# Altium footprint library con-bh.PcbLib: 3 footprints
Each footprint in its own frame and in the unit in brackets; x right, y up, seen from the top. Pads: shape width x height; smd on the part's side, far side on the other; paste and mask are expansions set on the pad; w line width, h text height; cw(c..) or ccw(c..) is an arc to the next point about the centre after c.
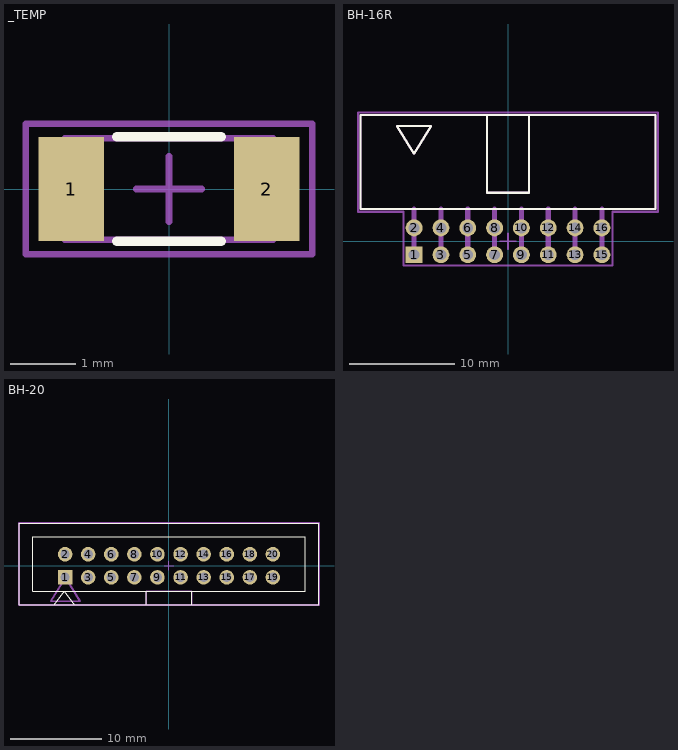
[diagram p0: the footprints below, top view; thin cyan lines are the x and y axes]

## _TEMP [mm]
height 0.6
pads (2):
  rect 1x1.6 smd: 1(-1.5,0) 2(1.5,0)
Top Overlay:
  lines w0.15: -0.8,-0.8 0.8,-0.8 ; -0.8,0.8 0.8,0.8
Top Assembly (Mech3):
  lines w0.1: -1.6,-0.775 1.6,-0.775 1.6,0.775 -1.6,0.775 -1.6,-0.775
Top Courtyard:
  lines w0.1: -0.5,0 0.5,0 ; 0,-0.5 0,0.5 ; -2.2,-1 -2.2,1 2.2,1 2.2,-1 -2.2,-1
3D body "chip_1206_r.STEP": height 0.47, standoff -0.03, extent -1.65,-0.8 1.55,0.8

## BH-16R [mm]
height 8.5
pads (16):
  rect 1.6x1.6 hole 1.02: 1(-8.89,-1.27)
  round 1.6 hole 1.02: 2(-8.89,1.27) 3(-6.35,-1.27) 4(-6.35,1.27) 5(-3.81,-1.27) 6(-3.81,1.27) 7(-1.27,-1.27) 8(-1.27,1.27) 9(1.27,-1.27) 10(1.27,1.27) 11(3.81,-1.27) 12(3.81,1.27) 13(6.35,-1.27) 14(6.35,1.27) 15(8.89,-1.27) 16(8.89,1.27)
Top Overlay:
  lines w0.2: -2,11.96 -2,4.6 2,4.6 2,11.96 ; -13.95,3.06 13.95,3.06 13.95,11.96 -13.95,11.96 -13.95,3.06 ; -10.5,10.9 -8.9,8.3 -7.28,10.9 -8.89,10.9 -10.5,10.9
Top Assembly (Mech3):
  lines w0.2: -2,11.96 -2,4.6 2,4.6 2,11.96 ; -13.95,3.06 -13.95,11.96 13.95,11.96 13.95,3.06 -13.95,3.06 ; -10.5,10.9 -8.89,10.9 -7.28,10.9 -8.9,8.3 -10.5,10.9
  lines w0.5: -8.9,3.06 -8.89,-1.27 ; -6.35,-1.27 -6.35,3.06 ; -3.81,-1.27 -3.81,3.06 ; -1.27,-1.27 -1.27,3.06 ; 1.27,-1.27 1.27,3.06 ; 3.81,-1.27 3.81,3.06 ; 6.35,-1.27 6.35,3.06 ; 8.89,-1.27 8.89,3.06
Top Courtyard:
  lines w0.15: -0.762,0 0.762,0 ; 0,-0.762 0,0.762
  lines w0.2: -14.2,2.8 -9.9,2.8 -9.9,-2.3 9.9,-2.3 9.9,2.8 14.2,2.8 14.2,12.2 -14.2,12.2 -14.2,2.8
3D body "BH-16R.STEP": height 9.1, standoff -2.8, extent -13.95,-1.6 13.95,11.96

## BH-20 [mm]
pads (20):
  rect 1.6x1.6 hole 1.02: 1(-11.43,-1.27)
  round 1.6 hole 1.02: 2(-11.43,1.27) 3(-8.89,-1.27) 4(-8.89,1.27) 5(-6.35,-1.27) 6(-6.35,1.27) 7(-3.81,-1.27) 8(-3.81,1.27) 9(-1.27,-1.27) 10(-1.27,1.27) 11(1.27,-1.27) 12(1.27,1.27) 13(3.81,-1.27) 14(3.81,1.27) 15(6.35,-1.27) 16(6.35,1.27) 17(8.89,-1.27) 18(8.89,1.27) 19(11.43,-1.27) 20(11.43,1.27)
Top Overlay:
  lines w0.1: -12.6,-4.3 -11.5,-2.8 -10.4,-4.3 ; -2.5,-4.3 -2.5,-2.8 ; 2.5,-4.3 2.5,-2.8 ; -16.5,-4.3 -16.5,4.7 16.5,4.7 16.5,-4.3 -16.5,-4.3 ; -15,-2.8 -15,3.2 15,3.2 15,-2.8 -15,-2.8
Top Assembly (Mech3):
  lines w0.2: -2.5,-4.3 -2.5,-2.8 2.5,-2.8 2.5,-4.3 ; -16.5,-4.3 -16.5,4.7 16.5,4.7 16.5,-4.3 -16.5,-4.3 ; -13.01,-3.9 -11.4,-3.9 -9.79,-3.9 -11.39,-1.3 -13.01,-3.9
  text ".Designator" at -5.95,0.85 h1.2
Top Courtyard:
  lines w0.1: -0.5,0 0.5,0 ; 0,-0.5 0,0.5 ; -16.5,-4.3 -16.5,4.7 16.5,4.7 16.5,-4.3 -16.5,-4.3
3D body "BH-20.STEP": height 8.9, standoff -3.5, extent -16.5,-4.3 16.5,4.7